# Altium schematic symbol library NFC_Antenna.SchLib: 1 symbol
Pins are listed as number, name and electrical type; pins without a type are passive.

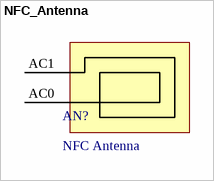
[diagram p0: symbol NFC_Antenna]

## NFC_Antenna
designator AN?, comment NFC Antenna
L=5.51 uH, tuned for 13.56 MHz; L: 5.51 uH
footprint NFC_Antenna (L=5.51 uH, tuned for 13.56 MHz)
pins: AC0, AC1